# EAGLE library part TUSB2036 (library paparazzi3)
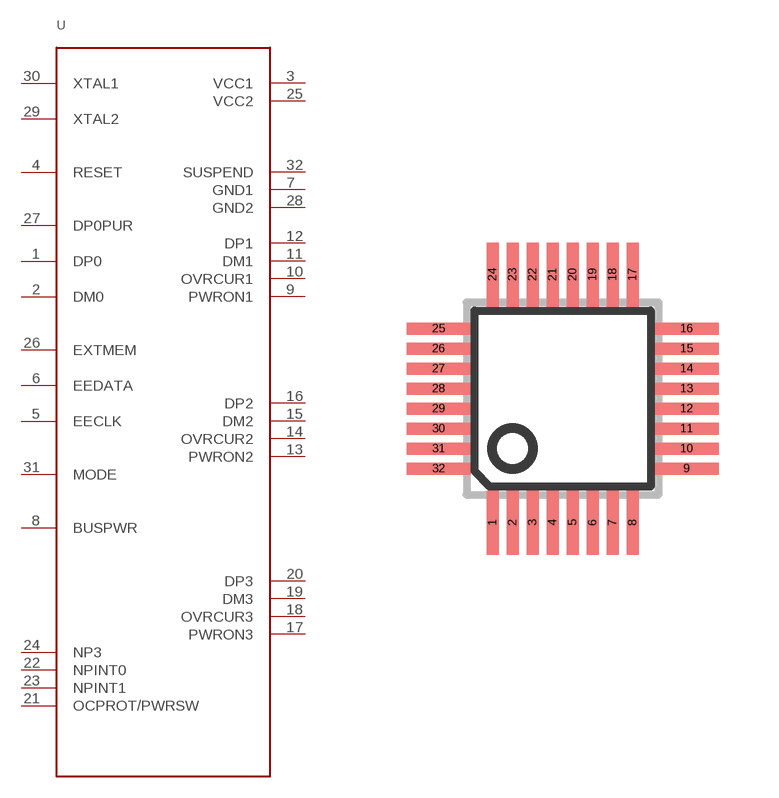
[diagram p38: symbol with the pads of LQFP-32; footprint LQFP-32]

Designator prefix -

## TUSB2036  [LQFP-32]
1  DP0
2  DM0
3  VCC1
4  RESET
5  EECLK
6  EEDATA
7  GND1
8  BUSPWR
9  PWRON1
10  OVRCUR1
11  DM1
12  DP1
13  PWRON2
14  OVRCUR2
15  DM2
16  DP2
17  PWRON3
18  OVRCUR3
19  DM3
20  DP3
21  OCPROT/PWRSW
22  NPINT0
23  NPINT1
24  NP3
25  VCC2
26  EXTMEM
27  DP0PUR
28  GND2
29  XTAL2
30  XTAL1
31  MODE
32  SUSPEND

## Footprint LQFP-32 (pad centres in mm)
Quad FLat Pack
smd 0.3 x 1.6: 1 -1.75,-3.1; 2 -1.25,-3.1; 3 -0.75,-3.1; 4 -0.25,-3.1; 5 0.25,-3.1; 6 0.75,-3.1; 7 1.25,-3.1; 8 1.75,-3.1; 17 1.75,3.1; 18 1.25,3.1; 19 0.75,3.1; 20 0.25,3.1; 21 -0.25,3.1; 22 -0.75,3.1; 23 -1.25,3.1; 24 -1.75,3.1
smd 1.6 x 0.3: 9 3.1,-1.75; 10 3.1,-1.25; 11 3.1,-0.75; 12 3.1,-0.25; 13 3.1,0.25; 14 3.1,0.75; 15 3.1,1.25; 16 3.1,1.75; 25 -3.1,1.75; 26 -3.1,1.25; 27 -3.1,0.75; 28 -3.1,0.25; 29 -3.1,-0.25; 30 -3.1,-0.75; 31 -3.1,-1.25; 32 -3.1,-1.75